# Altium footprint library RFOUT DaughterBoard.PcbLib: 12 footprints
Each footprint in its own frame and in the unit in brackets; x right, y up, seen from the top. Pads: shape width x height; smd on the part's side, far side on the other; paste and mask are expansions set on the pad; w line width, h text height; cw(c..) or ccw(c..) is an arc to the next point about the centre after c.
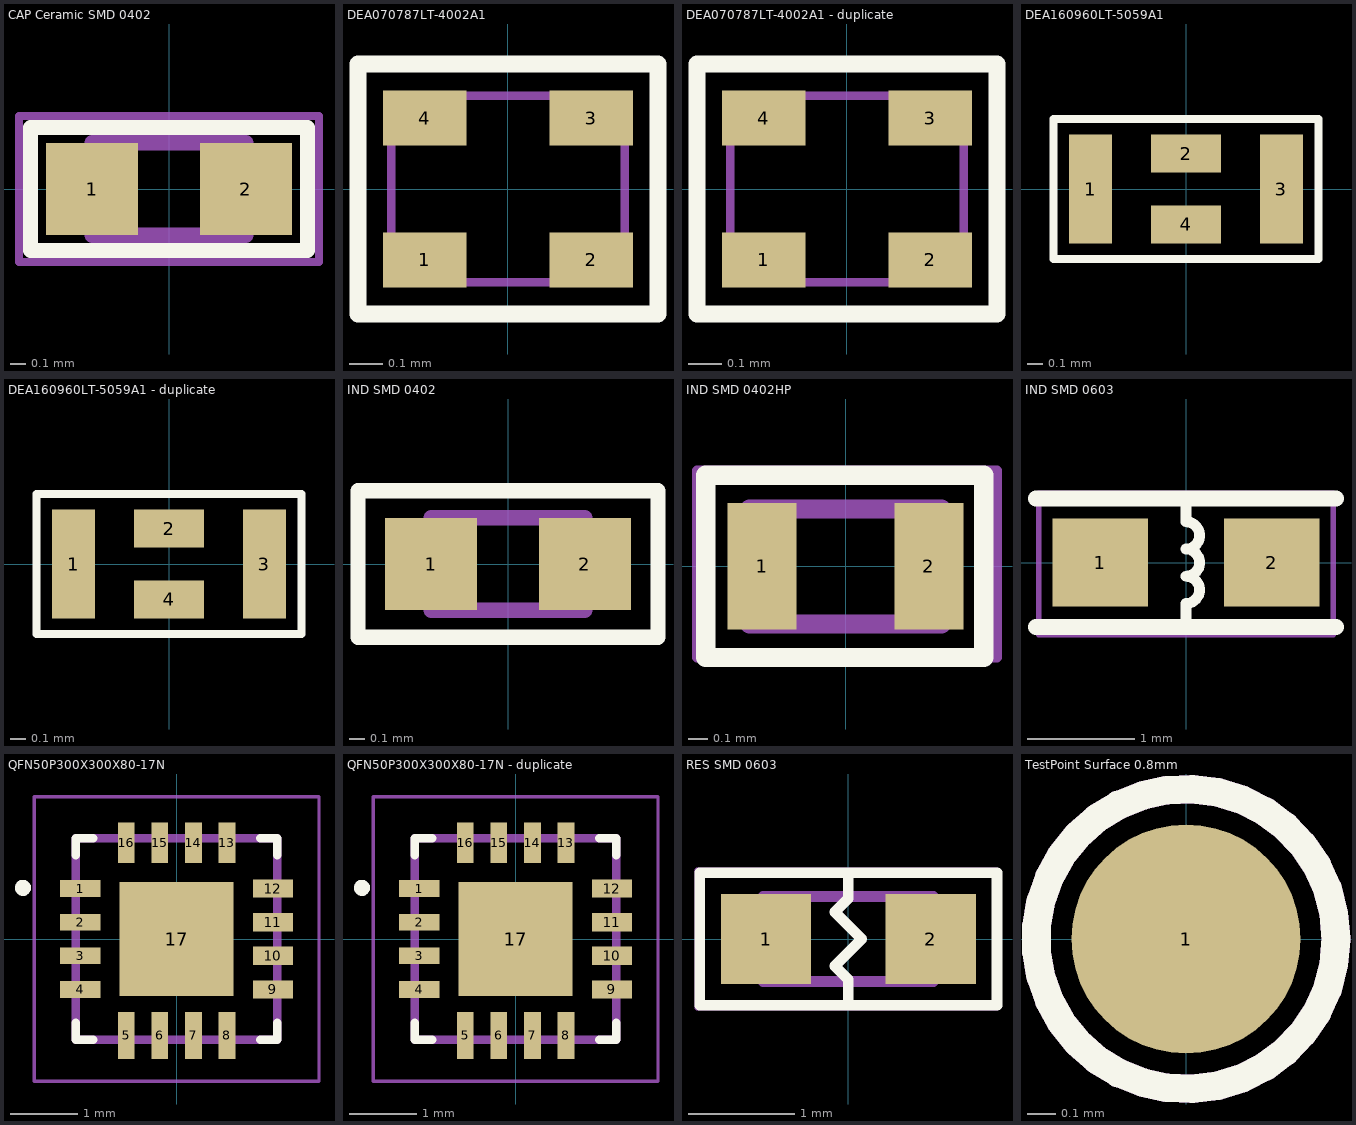
[diagram p0: the footprints below, top view; thin cyan lines are the x and y axes]

## CAP Ceramic SMD 0402 [mm]
pads (2):
  rect 0.6x0.6 smd mask+0.05: 1(-0.5,0) 2(0.5,0)
Top Overlay:
  lines w0.1: -0.9,-0.4 -0.9,0.4 0.9,0.4 0.9,-0.4 -0.9,-0.4
  text ".Comment" at -0.8,0.7 h0.7
Top Designator:
  text ".Designator" at -0.5,-0.2 h0.3
Top 3D Body:
  lines w0.1: -0.5,-0.3 0.5,-0.3 0.5,0.3 -0.5,0.3 -0.5,-0.3
Top Courtyard:
  lines w0.05: -0.975,-0.475 -0.975,0.475 0.975,0.475 0.975,-0.475 -0.975,-0.475
3D body "User Library-0402(1005M) Cap.step": height 0.51, standoff 0, extent -0.508,-0.254 0.508,0.254

## DEA070787LT-4002A1 [mm]
pads (4):
  rect 0.25x0.165 smd: 1(-0.25,-0.212) 2(0.25,-0.212) 3(0.25,0.213) 4(-0.25,0.213)
Top Overlay:
  lines w0.05: -0.45,-0.375 0.45,-0.375 0.45,0.375 -0.45,0.375 -0.45,-0.375
Top 3D Body:
  lines w0.025: -0.35,-0.28 0.35,-0.28 ; -0.35,-0.28 -0.35,0.28 ; -0.35,-0.28 0.35,-0.28 ; -0.35,-0.28 -0.35,0.28 ; -0.35,0.28 0.35,0.28 ; -0.35,0.28 0.35,0.28 ; 0.35,-0.28 0.35,0.28 ; 0.35,-0.28 0.35,0.28
3D body: height 0.3, standoff 0, extent -0.35,-0.28 0.35,0.28

## DEA070787LT-4002A1 - duplicate [mm]
pads (4):
  rect 0.25x0.165 smd: 1(-0.25,-0.212) 2(0.25,-0.212) 3(0.25,0.213) 4(-0.25,0.213)
Top Overlay:
  lines w0.05: -0.45,-0.375 0.45,-0.375 0.45,0.375 -0.45,0.375 -0.45,-0.375
Top 3D Body:
  lines w0.025: -0.35,-0.28 0.35,-0.28 ; -0.35,-0.28 -0.35,0.28 ; -0.35,-0.28 0.35,-0.28 ; -0.35,-0.28 -0.35,0.28 ; -0.35,0.28 0.35,0.28 ; -0.35,0.28 0.35,0.28 ; 0.35,-0.28 0.35,0.28 ; 0.35,-0.28 0.35,0.28
3D body: height 0.3, standoff 0, extent -0.35,-0.28 0.35,0.28

## DEA160960LT-5059A1 [mm]
pads (4):
  rect 0.275x0.7 smd paste+0 mask+0: 1(-0.613,0) 3(0.613,0)
  rect 0.45x0.245 smd paste+0 mask+0: 2(0,0.228) 4(0,-0.228)
Top Overlay:
  lines w0.05: -0.85,-0.45 0.85,-0.45 0.85,0.45 -0.85,0.45 -0.85,-0.45
Top 3D Body:
  lines w0.025: -0.85,-0.45 0.85,-0.45 0.85,0.45 -0.85,0.45 -0.85,-0.45
3D body: height 0.7, standoff 0, extent -0.85,-0.45 0.85,0.45

## DEA160960LT-5059A1 - duplicate [mm]
pads (4):
  rect 0.275x0.7 smd paste+0 mask+0: 1(-0.613,0) 3(0.613,0)
  rect 0.45x0.245 smd paste+0 mask+0: 2(0,0.228) 4(0,-0.228)
Top Overlay:
  lines w0.05: -0.85,-0.45 0.85,-0.45 0.85,0.45 -0.85,0.45 -0.85,-0.45
Top 3D Body:
  lines w0.025: -0.85,-0.45 0.85,-0.45 0.85,0.45 -0.85,0.45 -0.85,-0.45
3D body: height 0.7, standoff 0, extent -0.85,-0.45 0.85,0.45

## IND SMD 0402 [mm]
pads (2):
  rect 0.6x0.6 smd mask+0.05: 1(-0.5,0) 2(0.5,0)
Top Overlay:
  lines w0.1: -0.975,-0.475 -0.975,0.475 0.975,0.475 0.975,-0.475 -0.975,-0.475
Top Designator:
  text ".Designator" at -0.5,-0.2 h0.3
Top 3D Body:
  lines w0.1: -0.5,-0.3 0.5,-0.3 0.5,0.3 -0.5,0.3 -0.5,-0.3
Top Courtyard:
  lines w0.05: -0.975,-0.475 -0.975,0.475 0.975,0.475 0.975,-0.475 -0.975,-0.475
3D body "chip_0402_r.STEP": height 0.34, standoff -0.02, extent -0.525,-0.25 0.475,0.25

## IND SMD 0402HP [mm]
pads (2):
  rect 0.36x0.66 smd: 1(-0.435,0) 2(0.435,0)
Top Overlay:
  lines w0.1: -0.729,-0.475 -0.729,0.475 0.721,0.475 0.721,-0.475 -0.729,-0.475
Top Designator:
  text ".Designator" at -1.4,-0.5 h0.3
Top 3D Body:
  lines w0.1: -0.5,-0.3 0.5,-0.3 0.5,0.3 -0.5,0.3 -0.5,-0.3
Top Courtyard:
  lines w0.05: -0.775,-0.475 -0.775,0.5 0.79,0.5 0.79,-0.475 -0.775,-0.475
3D body "0402HP.STEP": height 0.62, standoff 0.01, extent -0.548,-0.356 0.548,0.356

## IND SMD 0603 [mm]
pads (2):
  rect 0.89x0.82 smd: 1(-0.8,0) 2(0.8,0)
Top Overlay:
  lines w0.1: 0,-0.6 0,-0.381 ccw(c0,-0.254) 0,-0.127 ccw(c0,0) 0,0.127 ccw(c0,0.254) 0,0.381 0,0.6
  lines w0.15: -1.4,-0.6 1.4,-0.6 ; -1.4,0.6 1.4,0.6
  text ".Comment" at -0.9,0.9 h0.7
Top Designator:
  text ".Designator" at -0.873,1.26 h1
Top Courtyard:
  lines w0.05: -1.375,-0.675 1.375,-0.675 1.375,0.65 -1.375,0.65 -1.375,-0.675
3D body "User Library-Chip InductorINDC1608X95N.STEP": height 0.95, standoff 0, extent -0.8,-0.4 0.8,0.4

## QFN50P300X300X80-17N [mm]
pads (17):
  rect 0.6x0.25 smd: 1(-1.435,0.75) 2(-1.435,0.25) 3(-1.435,-0.25) 4(-1.435,-0.75)
  rect 0.25x0.7 smd: 5(-0.75,-1.435) 6(-0.25,-1.435) 7(0.25,-1.435) 8(0.75,-1.435)
  rect 0.6x0.27 smd: 9(1.435,-0.75) 10(1.435,-0.25) 11(1.435,0.25) 12(1.435,0.75)
  rect 0.25x0.6 smd: 13(0.75,1.435) 14(0.25,1.435) 15(-0.25,1.435) 16(-0.75,1.435)
  rect 1.7x1.7 smd: 17(0,0)
Top Overlay:
  circle w0.12: c-2.286,0.762 r0.06
  lines w0.127: -1.499,-1.245 -1.499,-1.499 -1.245,-1.499 ; -1.499,1.245 -1.499,1.499 -1.245,1.499 ; 1.245,-1.499 1.499,-1.499 1.499,-1.245 ; 1.245,1.499 1.499,1.499 1.499,1.245
Top Paste:
  region: 0.389,-0.389 -0.389,-0.389 -0.389,0.389 0.389,0.389
Top 3D Body:
  lines w0: -0.889,-1.549 -0.889,-1.499 -0.61,-1.499 ; -1.549,-0.889 -1.499,-0.889 -1.499,-0.61 -1.549,-0.61 -1.549,-0.889 ; -1.549,-0.406 -1.499,-0.406 -1.499,-0.102 -1.549,-0.102 -1.549,-0.406 ; -1.549,0.102 -1.499,0.102 -1.499,0.406 -1.549,0.406 -1.549,0.102 ; -1.549,0.61 -1.499,0.61 -1.499,0.889 -1.549,0.889 -1.549,0.61 ; -0.889,1.499 -0.889,1.549 -0.61,1.549 -0.61,1.499 -0.889,1.499 ; -0.406,-1.549 -0.102,-1.549 -0.102,-1.499 -0.406,-1.499 -0.406,-1.549 ; -0.406,1.499 -0.406,1.549 -0.102,1.549 -0.102,1.499 -0.406,1.499 ; 0.102,-1.549 0.406,-1.549 0.406,-1.499 0.102,-1.499 0.102,-1.549 ; 0.102,1.499 0.102,1.549 0.406,1.549 0.406,1.499 0.102,1.499 ; 0.61,-1.549 0.889,-1.549 0.889,-1.499 0.61,-1.499 0.61,-1.549 ; 0.61,1.499 0.61,1.549 0.889,1.549 0.889,1.499 0.61,1.499 ; 1.499,-0.889 1.549,-0.889 1.549,-0.61 1.499,-0.61 1.499,-0.889 ; 1.499,-0.406 1.549,-0.406 1.549,-0.102 1.499,-0.102 1.499,-0.406 ; 1.499,0.102 1.549,0.102 1.549,0.406 1.499,0.406 1.499,0.102 ; 1.499,0.61 1.549,0.61 1.549,0.889 1.499,0.889 1.499,0.61
  lines w0.127: -1.499,-1.499 -1.499,1.499 1.499,1.499 1.499,-1.499 -1.499,-1.499
Top Courtyard:
  lines w0.05: -2.12,-2.12 -2.12,2.12 2.12,2.12 2.12,-2.12 -2.12,-2.12
3D body "TPS62142RGTR.STEP": height 1.01, standoff 0.01, extent -1.5,-1.5 1.5,1.5

## QFN50P300X300X80-17N - duplicate [mm]
pads (17):
  rect 0.6x0.25 smd: 1(-1.435,0.75) 2(-1.435,0.25) 3(-1.435,-0.25) 4(-1.435,-0.75)
  rect 0.25x0.7 smd: 5(-0.75,-1.435) 6(-0.25,-1.435) 7(0.25,-1.435) 8(0.75,-1.435)
  rect 0.6x0.27 smd: 9(1.435,-0.75) 10(1.435,-0.25) 11(1.435,0.25) 12(1.435,0.75)
  rect 0.25x0.6 smd: 13(0.75,1.435) 14(0.25,1.435) 15(-0.25,1.435) 16(-0.75,1.435)
  rect 1.7x1.7 smd: 17(0,0)
Top Overlay:
  circle w0.12: c-2.286,0.762 r0.06
  lines w0.127: -1.499,-1.245 -1.499,-1.499 -1.245,-1.499 ; -1.499,1.245 -1.499,1.499 -1.245,1.499 ; 1.245,-1.499 1.499,-1.499 1.499,-1.245 ; 1.245,1.499 1.499,1.499 1.499,1.245
Top Paste:
  region: 0.389,-0.389 -0.389,-0.389 -0.389,0.389 0.389,0.389
Top 3D Body:
  lines w0: -0.889,-1.549 -0.889,-1.499 -0.61,-1.499 ; -1.549,-0.889 -1.549,-0.61 -1.499,-0.61 -1.499,-0.889 -1.549,-0.889 ; -1.549,-0.406 -1.549,-0.102 -1.499,-0.102 -1.499,-0.406 -1.549,-0.406 ; -1.549,0.102 -1.549,0.406 -1.499,0.406 -1.499,0.102 -1.549,0.102 ; -1.549,0.61 -1.549,0.889 -1.499,0.889 -1.499,0.61 -1.549,0.61 ; -0.889,1.499 -0.61,1.499 -0.61,1.549 -0.889,1.549 -0.889,1.499 ; -0.406,-1.549 -0.406,-1.499 -0.102,-1.499 -0.102,-1.549 -0.406,-1.549 ; -0.406,1.499 -0.102,1.499 -0.102,1.549 -0.406,1.549 -0.406,1.499 ; 0.102,-1.549 0.102,-1.499 0.406,-1.499 0.406,-1.549 0.102,-1.549 ; 0.102,1.499 0.406,1.499 0.406,1.549 0.102,1.549 0.102,1.499 ; 0.61,-1.549 0.61,-1.499 0.889,-1.499 0.889,-1.549 0.61,-1.549 ; 0.61,1.499 0.889,1.499 0.889,1.549 0.61,1.549 0.61,1.499 ; 1.499,-0.889 1.499,-0.61 1.549,-0.61 1.549,-0.889 1.499,-0.889 ; 1.499,-0.406 1.499,-0.102 1.549,-0.102 1.549,-0.406 1.499,-0.406 ; 1.499,0.102 1.499,0.406 1.549,0.406 1.549,0.102 1.499,0.102 ; 1.499,0.61 1.499,0.889 1.549,0.889 1.549,0.61 1.499,0.61
  lines w0.127: -1.499,-1.499 1.499,-1.499 1.499,1.499 -1.499,1.499 -1.499,-1.499
Top Courtyard:
  lines w0.05: -2.12,-2.12 2.12,-2.12 2.12,2.12 -2.12,2.12 -2.12,-2.12
3D body "TPS62142RGTR.STEP": height 1.01, standoff 0.01, extent -1.5,-1.5 1.5,1.5

## RES SMD 0603 [mm]
pads (2):
  rect 0.85x0.85 smd: 1(-0.775,0) 2(0.775,0)
Top Overlay:
  lines w0.1: 0,-0.625 0,-0.381 -0.127,-0.254 0.127,0 -0.127,0.254 0,0.381 0,0.625 ; -1.4,-0.625 1.4,-0.625 1.4,0.625 -1.4,0.625 -1.4,-0.625
Top Designator:
  text ".Designator" at -0.873,-0.44 h1
Top 3D Body:
  lines w0.1: -0.8,-0.4 -0.8,0.4 0.8,0.4 0.8,-0.4 -0.8,-0.4
Top Courtyard:
  lines w0.05: -1.425,-0.65 -1.425,0.65 1.4,0.65 1.4,-0.65 -1.425,-0.65
3D body "chip_0603_r.STEP": height 0.44, standoff -0.02, extent -0.8,-0.4 0.8,0.4

## TestPoint Surface 0.8mm [mm]
pads (1):
  round 0.8 smd mask+0.05: 1(0,0)
Top Overlay:
  circle w0.1: c0,0 r0.524
  text ".Comment" at -2.149,0.843 h0.6
Top Designator:
  text ".Designator" at -2.999,-0.2 h0.6
Top Courtyard:
  circle w0.1: c0,0 r0.524
  circle w0.1: c0,0 r0.524